# Altium footprint library PcbLib1.PcbLib: 2 footprints
Each footprint in its own frame and in the unit in brackets; x right, y up, seen from the top. Pads: shape width x height; smd on the part's side, far side on the other; paste and mask are expansions set on the pad; w line width, h text height; cw(c..) or ccw(c..) is an arc to the next point about the centre after c.
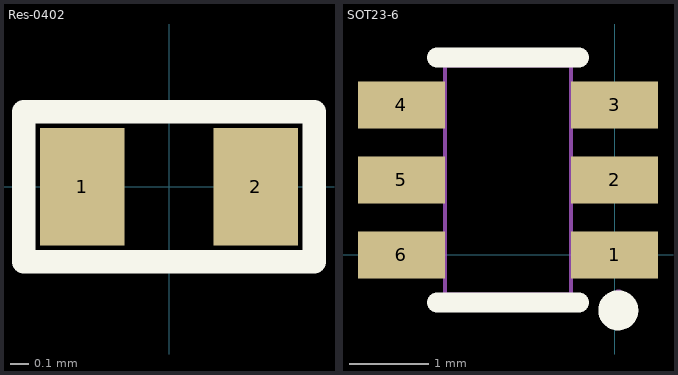
[diagram p0: the footprints below, top view; thin cyan lines are the x and y axes]

## Res-0402 [mil]
pads (2):
  rect 18x25 smd mask+2.17: 1(-18.5,0) 2(18.5,0)
Top Overlay:
  lines w0.13: -32,-17 32,-17
  lines w5: -31,-16 -31,16 31,16 31,-16 -31,-16
3D body "User Library-RES_1005-0402.step": height 16.14, standoff 0, extent -22.63,-10.82 22.64,10.83

## SOT23-6 [mm]
pads (6):
  rect 1.1x0.6 smd paste+0 mask+0.051: 1(0,0) 2(0,0.95) 3(0,1.9) 4(-2.7,1.9) 5(-2.7,0.95) 6(-2.7,0)
Top Overlay:
  circle w0.254: c0.047,-0.701 r0.127
  lines w0.254: -2.25,-0.6 -0.45,-0.6 ; -2.25,2.5 -0.45,2.5
Mechanical 6:
  circle w0.2: c0.05,0 r0.1
Mechanical 15:
  region: 0.11,-0.5 0.11,-0.475 0.075,-0.44 0.025,-0.44 -0.01,-0.475 -0.01,-0.5 -0.01,-0.525 0.025,-0.56 0.075,-0.56 0.11,-0.525
  region: -2.275,-0.215 -2.275,0.215 -2.75,0.215 -2.75,-0.215
  region: -2.275,0.735 -2.275,1.165 -2.75,1.165 -2.75,0.735
  region: -2.275,1.685 -2.275,2.115 -2.75,2.115 -2.75,1.685
  region: -2.285,1.685 -2.285,2.115 -2.14,2.115 -2.14,1.685
  region: -0.425,1.685 -0.425,2.115 0.05,2.115 0.05,1.685
  region: -0.425,0.735 -0.425,1.165 0.05,1.165 0.05,0.735
  region: -0.425,-0.215 -0.425,0.215 0.05,0.215 0.05,-0.215
  region: -2.285,0.735 -2.285,1.165 -2.14,1.165 -2.14,0.735
  region: -2.285,-0.215 -2.285,0.215 -2.14,0.215 -2.14,-0.215
  region: -0.415,0.215 -0.415,-0.215 -0.56,-0.215 -0.56,0.215
  region: -0.415,1.165 -0.415,0.735 -0.56,0.735 -0.56,1.165
  region: -0.415,2.115 -0.415,1.685 -0.56,1.685 -0.56,2.115
  lines w0.051: -2.15,-0.5 -2.15,2.4 -0.55,2.4 -0.55,-0.5 -2.15,-0.5